# Altium integrated library Molex Pico SPOX 4 POS RA.IntLib: 1 symbol
Pins are listed as number, name and electrical type; pins without a type are passive.

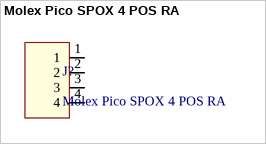
[diagram p0: symbol Molex Pico SPOX 4 POS RA]

## Molex Pico SPOX 4 POS RA
designator J?
footprint Molex Pico SPOX 4 POS RA
pins: 1, 2, 3, 4